# EAGLE library part LAN951X (library geusebio)
LAN951X LAN9512 has two downstream USB ports LAN9514 has four downstream USB ports The same footprint is use for both but for LAN9512 (2 port) accpications the _USB1 block signals should be NC
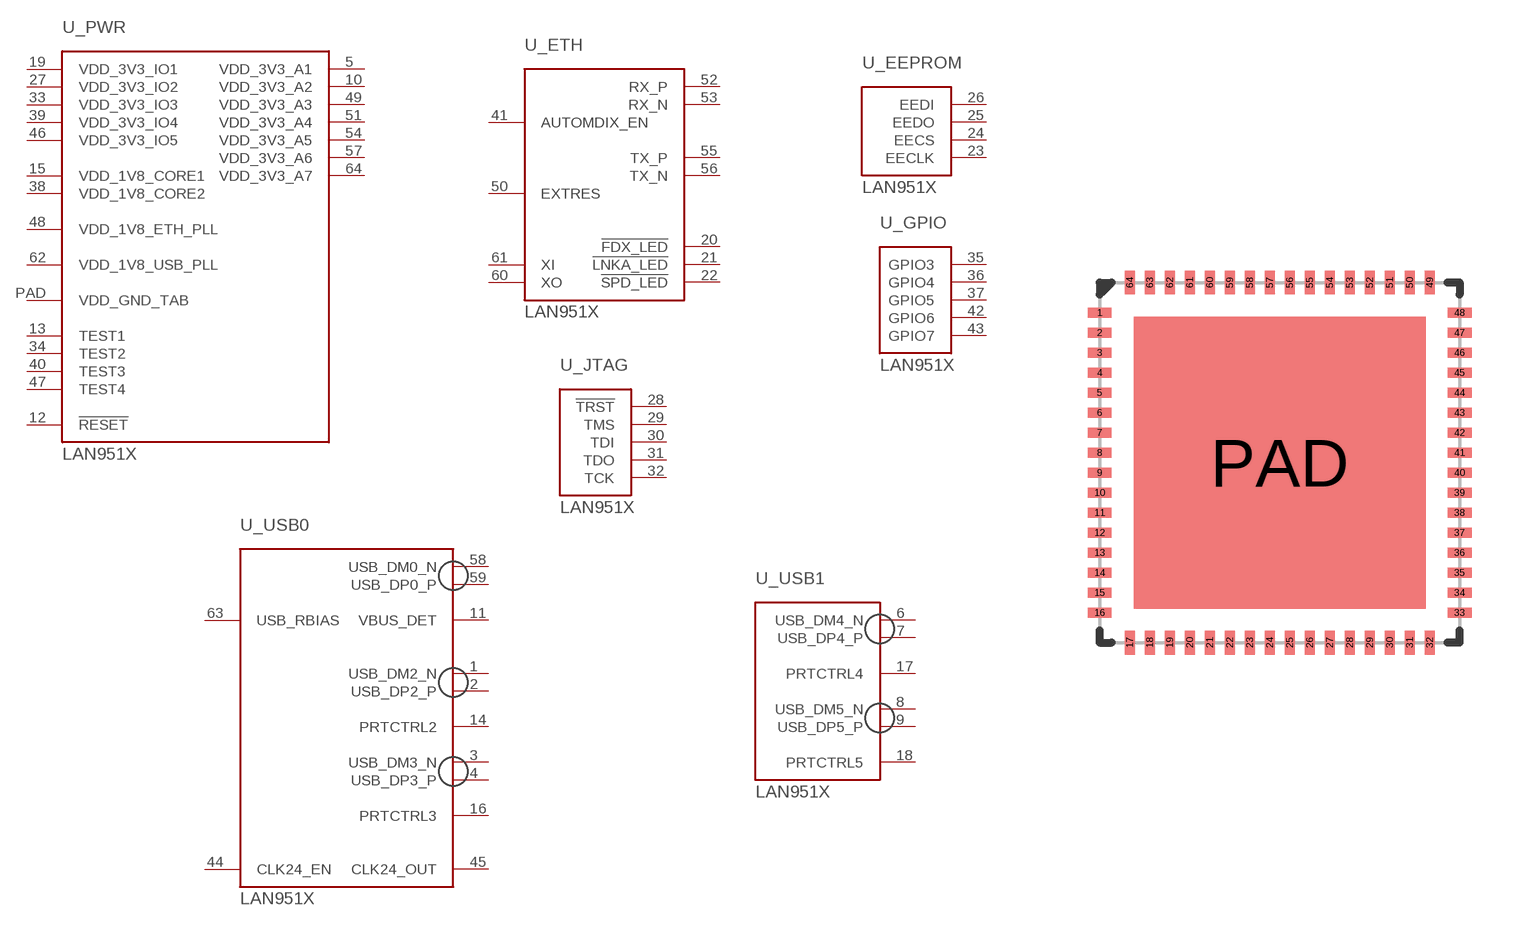
[diagram p16: symbol with the pads of QFN-64; footprint QFN-64]

Designator prefix U; gates _PWR=LAN915X_PWR _ETH=LAN915X_ETH _EEPROM=LAN915X_EEPROM _GPIO=LAN915X_GPIO _JTAG=LAN915X_JTAG _USB0=LAN915X_USB0 _USB1=LAN915X_USB1

## LAN951X  [QFN-64]
1  _USB0:USB_DM2_N
2  _USB0:USB_DP2_P
3  _USB0:USB_DM3_N
4  _USB0:USB_DP3_P
5  _PWR:VDD_3V3_A1
6  _USB1:USB_DM4_N
7  _USB1:USB_DP4_P
8  _USB1:USB_DM5_N
9  _USB1:USB_DP5_P
10  _PWR:VDD_3V3_A2
11  _USB0:VBUS_DET
12  _PWR:!RESET
13  _PWR:TEST1
14  _USB0:PRTCTRL2
15  _PWR:VDD_1V8_CORE1
16  _USB0:PRTCTRL3
17  _USB1:PRTCTRL4
18  _USB1:PRTCTRL5
19  _PWR:VDD_3V3_IO1
20  _ETH:!FDX_LED
21  _ETH:!LNKA_LED
22  _ETH:!SPD_LED
23  _EEPROM:EECLK
24  _EEPROM:EECS
25  _EEPROM:EEDO
26  _EEPROM:EEDI
27  _PWR:VDD_3V3_IO2
28  _JTAG:!TRST
29  _JTAG:TMS
30  _JTAG:TDI
31  _JTAG:TDO
32  _JTAG:TCK
33  _PWR:VDD_3V3_IO3
34  _PWR:TEST2
35  _GPIO:GPIO3
36  _GPIO:GPIO4
37  _GPIO:GPIO5
38  _PWR:VDD_1V8_CORE2
39  _PWR:VDD_3V3_IO4
40  _PWR:TEST3
41  _ETH:AUTOMDIX_EN
42  _GPIO:GPIO6
43  _GPIO:GPIO7
44  _USB0:CLK24_EN
45  _USB0:CLK24_OUT
46  _PWR:VDD_3V3_IO5
47  _PWR:TEST4
48  _PWR:VDD_1V8_ETH_PLL
49  _PWR:VDD_3V3_A3
50  _ETH:EXTRES
51  _PWR:VDD_3V3_A4
52  _ETH:RX_P
53  _ETH:RX_N
54  _PWR:VDD_3V3_A5
55  _ETH:TX_P
56  _ETH:TX_N
57  _PWR:VDD_3V3_A6
58  _USB0:USB_DM0_N
59  _USB0:USB_DP0_P
60  _ETH:XO
61  _ETH:XI
62  _PWR:VDD_1V8_USB_PLL
63  _USB0:USB_RBIAS
64  _PWR:VDD_3V3_A7
PAD  _PWR:VDD_GND_TAB

## Footprint QFN-64 (pad centres in mm)
smd 0.6 x 0.25: 1 -4.5,3.75; 2 -4.5,3.25; 3 -4.5,2.75; 4 -4.5,2.25; 5 -4.5,1.75; 6 -4.5,1.25; 7 -4.5,0.75; 8 -4.5,0.25; 9 -4.5,-0.25; 10 -4.5,-0.75; 11 -4.5,-1.25; 12 -4.5,-1.75; 13 -4.5,-2.25; 14 -4.5,-2.75; 15 -4.5,-3.25; 16 -4.5,-3.75; 33 4.5,-3.75; 34 4.5,-3.25; 35 4.5,-2.75; 36 4.5,-2.25; 37 4.5,-1.75; 38 4.5,-1.25; 39 4.5,-0.75; 40 4.5,-0.25; 41 4.5,0.25; 42 4.5,0.75; 43 4.5,1.25; 44 4.5,1.75; 45 4.5,2.25; 46 4.5,2.75; 47 4.5,3.25; 48 4.5,3.75
smd 0.25 x 0.6: 17 -3.75,-4.5; 18 -3.25,-4.5; 19 -2.75,-4.5; 20 -2.25,-4.5; 21 -1.75,-4.5; 22 -1.25,-4.5; 23 -0.75,-4.5; 24 -0.25,-4.5; 25 0.25,-4.5; 26 0.75,-4.5; 27 1.25,-4.5; 28 1.75,-4.5; 29 2.25,-4.5; 30 2.75,-4.5; 31 3.25,-4.5; 32 3.75,-4.5; 49 3.75,4.5; 50 3.25,4.5; 51 2.75,4.5; 52 2.25,4.5; 53 1.75,4.5; 54 1.25,4.5; 55 0.75,4.5; 56 0.25,4.5; 57 -0.25,4.5; 58 -0.75,4.5; 59 -1.25,4.5; 60 -1.75,4.5; 61 -2.25,4.5; 62 -2.75,4.5; 63 -3.25,4.5; 64 -3.75,4.5
smd 7.3 x 7.3: PAD 0,0